# Altium footprint library 3400 PCB Lib.PcbLib: 3 footprints
Each footprint in its own frame and in the unit in brackets; x right, y up, seen from the top. Pads: shape width x height; smd on the part's side, far side on the other; paste and mask are expansions set on the pad; w line width, h text height; cw(c..) or ccw(c..) is an arc to the next point about the centre after c.
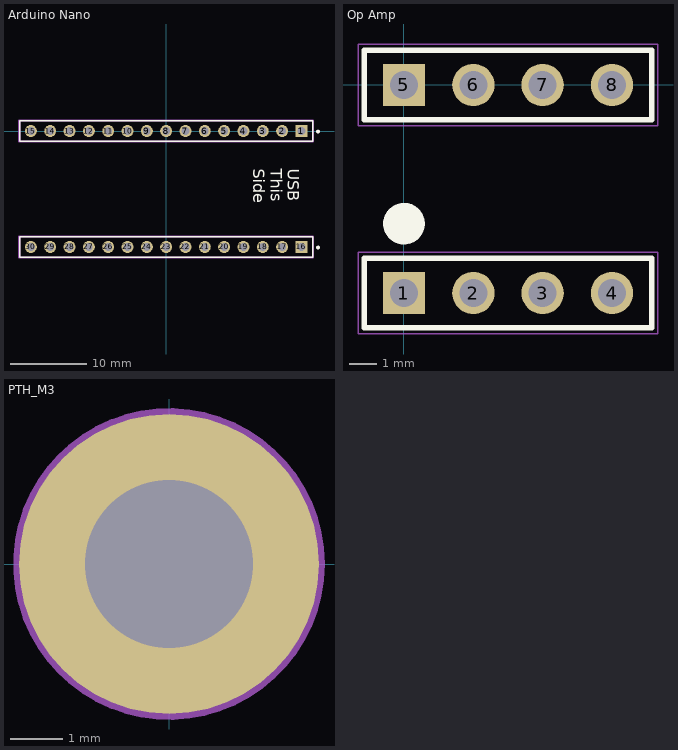
[diagram p0: the footprints below, top view; thin cyan lines are the x and y axes]

## Arduino Nano [mm]
pads (30):
  rect 1.57x1.57 hole 1.02 paste-1000 mask+0: 1(17.78,0) 16(17.78,-15.24)
  round 1.57 hole 1.02 paste-1000 mask+0: 2(15.24,0) 3(12.7,0) 4(10.16,0) 5(7.62,0) 6(5.08,0) 7(2.54,0) 8(0,0) 9(-2.54,0) 10(-5.08,0) 11(-7.62,0) 12(-10.16,0) 13(-12.7,0) 14(-15.24,0) 15(-17.78,0) 17(15.24,-15.24) 18(12.7,-15.24) 19(10.16,-15.24) 20(7.62,-15.24) 21(5.08,-15.24) 22(2.54,-15.24) 23(0,-15.24) 24(-2.54,-15.24) 25(-5.08,-15.24) 26(-7.62,-15.24) 27(-10.16,-15.24) 28(-12.7,-15.24) 29(-15.24,-15.24) 30(-17.78,-15.24)
Top Overlay:
  circle w0.25: c19.96,-0.075 r0.125
  circle w0.25: c19.96,-15.315 r0.125
  lines w0.2: -19.24,-16.575 -19.24,-13.905 19.24,-13.905 19.24,-16.575 -19.24,-16.575 ; -19.24,-1.335 -19.24,1.335 19.24,1.335 19.24,-1.335 -19.24,-1.335
  text "USB / This / Side" at 11.43,-4.954 h1.52
Top Assembly:
  lines w0.2: -19.34,-16.675 -19.34,-13.805 19.34,-13.805 19.34,-16.675 -19.34,-16.675 ; -19.34,-1.435 -19.34,1.435 19.34,1.435 19.34,-1.435 -19.34,-1.435
  text ".Designator" at 0,0.188 h1
  text ".Designator" at 0,-15.052 h1
Top 3D Body:
  lines w0.2: -19.24,-16.575 -19.24,-13.905 19.24,-13.905 19.24,-16.575 -19.24,-16.575 ; -19.24,-1.335 -19.24,1.335 19.24,1.335 19.24,-1.335 -19.24,-1.335
Top Courtyard:
  lines w0.2: -19.34,-16.675 -19.34,-13.805 19.34,-13.805 19.34,-16.675 -19.34,-16.675 ; -19.34,-1.435 -19.34,1.435 19.34,1.435 19.34,-1.435 -19.34,-1.435
Top Component Center:
  lines w0.1: -0.5,-15.24 0.5,-15.24 ; -0.5,0 0.5,0 ; 0,-15.74 0,-14.74 ; 0,-0.5 0,0.5
3D body "Conn_SAMTEC_TSW-115-07-G-S_eec.STEP": height 0.25, standoff 0, extent -19.34,-1.435 19.34,1.435
3D body "Conn_SAMTEC_TSW-115-07-G-S_eec.STEP": height 0.25, standoff 0, extent -19.34,-16.675 19.34,-13.805

## Op Amp [mm] ".025 SQ Post Terminal Strip Assembly, 1x4 Pins, Vertical, 2.54mm Pitch, Male"
height 8.58
pads (8):
  rect 1.55x1.55 hole 1.02: 1(0,-7.62) 5(0,0)
  round 1.55 hole 1.02: 2(2.54,-7.62) 3(5.08,-7.62) 4(7.62,-7.62) 6(2.54,0) 7(5.08,0) 8(7.62,0)
Top Overlay:
  circle w0.762: c0,-5.08 r0.381
  lines w0.2: -1.46,-8.89 -1.46,-6.35 9.08,-6.35 9.08,-8.89 -1.46,-8.89 ; -1.46,-1.27 -1.46,1.27 9.08,1.27 9.08,-1.27 -1.46,-1.27
Top 3D Body:
  lines w0.1: -1.46,-8.89 -1.46,-6.35 9.08,-6.35 9.08,-8.89 -1.46,-8.89 ; -1.46,-1.27 -1.46,1.27 9.08,1.27 9.08,-1.27 -1.46,-1.27
Top Courtyard:
  lines w0.05: -1.685,-9.115 -1.685,-6.125 9.305,-6.125 9.305,-9.115 -1.685,-9.115 ; -1.685,-1.495 -1.685,1.495 9.305,1.495 9.305,-1.495 -1.685,-1.495
3D body "TSW-104-08-X-S.step": height 8.38, standoff -5.08, extent -1.27,-8.89 8.89,-6.35
3D body "TSW-104-08-X-S.step": height 8.38, standoff -5.08, extent -1.27,-1.27 8.89,1.27

## PTH_M3 [mm] "Plated Through Hole, M3"
pads (1):
  round 5.715 hole 3.2 paste+0: ""(0,0)
Mechanical 3:
  circle w0.254: c0,0 r2.843
  lines w0.254: -0.3,0 0.3,0 ; 0,-0.3 0,0.3